# EAGLE library part LM2671 (library usevolt)
TEXAS INSTRUMENTS LM2671MX-5.0/NOPB IC, STEP-DOWN REGULATOR, SOIC-8 http://www.farnell.com/datasheets/1874686.pdf
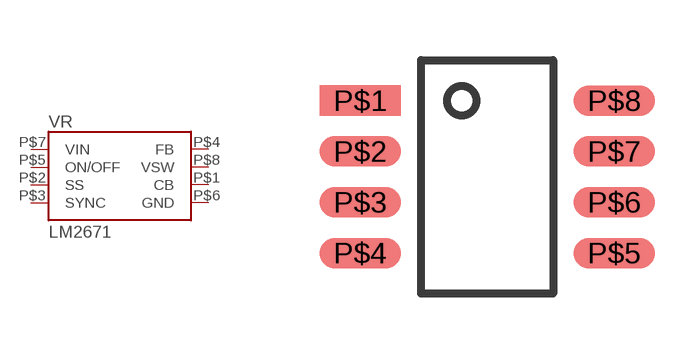
[diagram p21: symbol with the pads of SOIC8; footprint SOIC8]

Designator prefix VR

## LM2671SOIC8  [SOIC8]
P$1  CB
P$2  SS
P$3  SYNC
P$4  FB
P$5  ON/OFF
P$6  GND
P$7  VIN
P$8  VSW

## Footprint SOIC8 (pad centres in mm)
smd 2.032 x 0.762: P$1 -2.54,2.54; P$2 -2.54,1.27; P$3 -2.54,0; P$4 -2.54,-1.27; P$5 3.81,-1.27; P$6 3.81,0; P$7 3.81,1.27; P$8 3.81,2.54